# Altium schematic symbol library 28112023.SCHLIB: 18 symbols
Pins are listed as number, name and electrical type; pins without a type are passive.

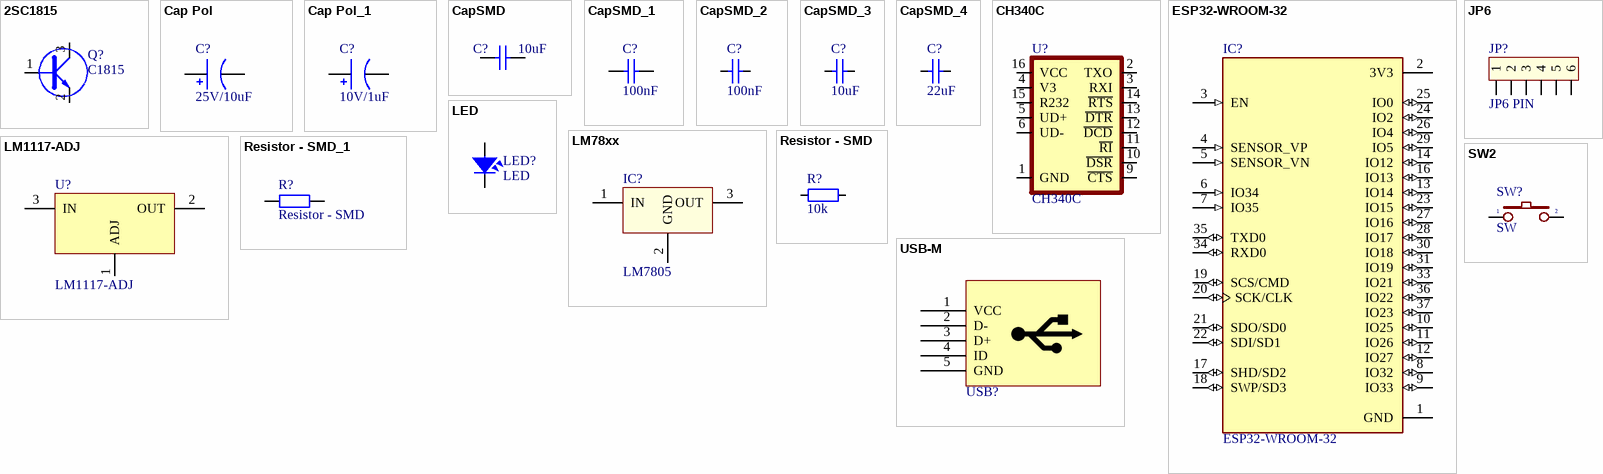
[diagram p0: symbols 2SC1815 to USB-M]

## 2SC1815
designator Q?, comment C1815
NPN 600mW, ECB; Value: C1815
footprint TO92-123 (TO-92)
footprint TO92-123 - 1 (TO-92)
footprint TO92-123 - 2 (TO-92)
footprint TO92-123 - 3 (TO-92)
footprint Model Name (Footprint not found)
footprint SOT23D (SOT 23C - 1-3-2 - BCE)
footprint C1815
pins: 1 B, 2 E, 3 C

## Cap Pol
designator C?, comment 25V/10uF
Polarized Capacitor (Axial); Published: 8-Jun-2000; LatestRevisionDate: 17-Jul-2002; LatestRevisionNote: Re-released for DXP Platform.; PackageReference: POLAR0.8; Publisher: Altium Limited
footprint C3MM
footprint C5mm
footprint C8mm
footprint C10mm
footprint C12mm
footprint CAP_H12_D08
footprint CAP_H20_D10
footprint CAP_H17_D10
pins: 1, 2
1 alternate drawing of the same symbol

## Cap Pol_1
designator C?, comment 10V/1uF
Polarized Capacitor (Axial); Published: 8-Jun-2000; LatestRevisionDate: 17-Jul-2002; LatestRevisionNote: Re-released for DXP Platform.; PackageReference: POLAR0.8; Publisher: Altium Limited
footprint C3MM
footprint C5mm
footprint C8mm
footprint C10mm
footprint C12mm
footprint CAP_H12_D08
footprint CAP_H20_D10
footprint CAP_H17_D10
pins: 1, 2
1 alternate drawing of the same symbol

## CapSMD
designator C?, comment 10uF
Capacitor; Value: 33p; Published: 8-Jun-2000; LatestRevisionDate: 17-Jul-2002; LatestRevisionNote: Re-released for DXP Platform.; PackageReference: RAD-0.3; Publisher: Altium Limited
simulation model CAP (Capacitor)
signal-integrity model Cap
footprint C0805 (Chip Resistor; Body 2.0 x 1.3 mm (LxW typ))
footprint CAP_0402
footprint CAP_0402
footprint CAP_0402
footprint CAP_0603
pins: 1, 2

## CapSMD_1
designator C?, comment 100nF
Capacitor; Value: 33p; Published: 8-Jun-2000; LatestRevisionDate: 17-Jul-2002; LatestRevisionNote: Re-released for DXP Platform.; PackageReference: RAD-0.3; Publisher: Altium Limited
simulation model CAP (Capacitor)
signal-integrity model Cap
footprint C0805 (Chip Resistor; Body 2.0 x 1.3 mm (LxW typ))
footprint CAP_0402
footprint CAP_0402
footprint CAP_0402
footprint CAP_0603
pins: 1, 2

## CapSMD_2
designator C?, comment 100nF
Capacitor; Value: 33p; Published: 8-Jun-2000; LatestRevisionDate: 17-Jul-2002; LatestRevisionNote: Re-released for DXP Platform.; PackageReference: RAD-0.3; Publisher: Altium Limited
footprint CAP_0402
footprint CAP_0603
footprint CAP_0805
footprint CAP_1206
footprint CAP_3216
footprint Cap0504 (nrf_Cap)
pins: 1, 2

## CapSMD_3
designator C?, comment 10uF
Capacitor; Value: 33p; Published: 8-Jun-2000; LatestRevisionDate: 17-Jul-2002; LatestRevisionNote: Re-released for DXP Platform.; PackageReference: RAD-0.3; Publisher: Altium Limited
footprint CAP_0402
footprint CAP_0603
footprint CAP_0805
footprint CAP_1206
footprint CAP_3216
footprint Cap0504 (nrf_Cap)
pins: 1, 2

## CapSMD_4
designator C?, comment 22uF
Capacitor; Value: 33p; Published: 8-Jun-2000; LatestRevisionDate: 17-Jul-2002; LatestRevisionNote: Re-released for DXP Platform.; PackageReference: RAD-0.3; Publisher: Altium Limited
footprint CAP_0402
footprint CAP_0603
footprint CAP_0805
footprint CAP_1206
footprint CAP_3216
footprint Cap0504 (nrf_Cap)
pins: 1, 2

## CH340C
designator U?
USB to serial chip CH340; MF: WCH; Package: Package; Check_prices: https://www.snapeda.com/parts/CH340C/WCH/view-part/5428851/?ref=eda; Value: *; Price: None; MP: CH340C; Availability: Unavailable; SnapEDA_Link: https://www.snapeda.com/parts/CH340C/WCH/view-part/5428851/?ref=snap
footprint SOP-16
pins: 1 GND (io), 2 TXO (io), 3 RXI (io), 4 V3 (io), 5 UD+ (io), 6 UD- (io), 9 ~{CTS} (io), 10 ~{DSR} (io), 11 ~{RI} (io), 12 ~{DCD} (io), 13 ~{DTR} (io), 14 ~{RTS} (io), 15 R232 (io), 16 VCC (io)

## ESP32-WROOM-32
designator IC?
Bluetooth, WiFi Transceiver Module 2.4GHz ~ 2.5GHz Surface Mount; MF: Espressif Systems; Package: Module Espressif Systems; Digi-Key_Part_Number: 1904-1010-1-ND; Digi-Key_Purchase_URL: https://www.digikey.com/product-detail/en/espressif-systems/ESP32-WROOM-32/1904-1010-1-ND/8544305?utm_source=snapeda&utm_medium=aggregator&utm_campaign=symbol; Value: *; MP: ESP32-WROOM-32; SnapEDA_Link: https://www.snapeda.com/parts/ESP32-WROOM-32/Espressif%20Systems/view-part/2753322/?ref=snap
footprint MODULE_ESP32-WROOM-32
pins: 1 GND (power), 2 3V3 (power), 3 EN (in), 4 SENSOR_VP (in), 5 SENSOR_VN (in), 6 IO34 (in), 7 IO35 (in), 8 IO32 (io), 9 IO33 (io), 10 IO25 (io), 11 IO26 (io), 12 IO27 (io), 13 IO14 (io), 14 IO12 (io), 15 GND (power), 16 IO13 (io), 17 SHD/SD2 (io), 18 SWP/SD3 (io), 19 SCS/CMD (io), 20 SCK/CLK (io), 21 SDO/SD0 (io), 22 SDI/SD1 (io), 23 IO15 (io), 24 IO2 (io), 25 IO0 (io), 26 IO4 (io), 27 IO16 (io), 28 IO17 (io), 29 IO5 (io), 30 IO18 (io), 31 IO19 (io), 33 IO21 (io), 34 RXD0 (io), 35 TXD0 (io), 36 IO22 (io), 37 IO23 (io), 38 GND (power), 39_1 GND (power), 39_2 GND (power), 39_3 GND (power), 39_4 GND (power), 39_5 GND (power), 39_6 GND (power), 39_7 GND (power), 39_8 GND (power), 39_9 GND (power), 39_10 GND (power), 39_11 GND (power), 39_12 GND (power), 39_13 GND (power), 39_14 GND (power), 39_15 GND (power), 39_16 GND (power), 39_17 GND (power), 39_18 GND (power), 39_19 GND (power), 39_20 GND (power), 39_21 GND (power)

## JP6
designator JP?, comment JP6 PIN
Value: JP7
footprint JP6
footprint JP6H
pins: 1, 2, 3, 4, 5, 6

## LED
designator LED?
LED Single colour Green and Red; Value: LED 3 ly Single Colour
footprint LED-3 (LED 2 PIN, 3ly Only colour)
footprint LED-5 GRe (LED 2 PIN, 5 ly , Only colour,pin to pin 100mil)
footprint LED-5TRED (LED 2 PIN, 5 ly , Only colour, pin to pin 110mil)
footprint LED-0805-Blue
footprint LED-0805-Green
footprint LED-0805-Orange
footprint LED-0805-Red
footprint LED-0805-Yellow
footprint LED-1206-Blue (Compoment SMD 120x60mil)
footprint LED-1206-Green
footprint LED-1206-Orange
footprint LED-1206-Red
footprint LED-1206-Yellow
footprint LED0805 (Chip Resistor; Body 2.0 x 1.3 mm (LxW typ))
pins: 1, 2

## LM78xx
designator IC?, comment LM7805
On ap +, from + 5 to + 24VDC; Value: LM7805
footprint QTO-220 (TO-220 - 1-2-3)
footprint QTO-220H3 (TO-220 1-2-3)
footprint QTO-220NH (TO-220 - 1-2-3)
pins: 1 IN, 2 GND, 3 OUT

## LM1117-ADJ
designator U?
800mA Low-Dropout Linear Regulator; Creator: Nguyen Ba Bien; Website: http://group3i.net
footprint LM1117-SOP
pins: 1 ADJ, 2 OUT, 3 IN

## Resistor - SMD
designator R?, comment 10k
Resistor; Manufacturer: Generic Components; Class: Passive; Published: 08/06/2000; Publisher: Altium Hobart Technology Centre
footprint RES-SMD-0101
footprint RES-SMD-0201
footprint RES-SMD-0603
footprint RES-SMD-0805
footprint RES-SMD-1206
footprint RES-SMD-1210 (Chip Capacitor, Body 3.2x2.5mm, IPC Medium Density)
footprint RES-SMD-1812 (Chip Capacitor, Body 3.2x2.5mm, IPC Medium Density)
footprint RES-SMD-2010 (Chip Capacitor, Body 3.2x2.5mm, IPC Medium Density)
footprint RES-SMD-2512 (Chip Capacitor, Body 3.2x2.5mm, IPC Medium Density)
footprint RES-SMD-0402
footprint RES-SMD-0402
footprint RES-SMD-0603
pins: 1, 2

## Resistor - SMD_1
designator R?, comment Resistor - SMD
Resistor SMD; Manufacturer: Generic Components; Class: Passive; Published: 08/06/2000; Publisher: Altium Hobart Technology Centre
footprint RES-SMD-0101
footprint RES-SMD-0201
footprint RES-SMD-0603
footprint RES-SMD-0805
footprint RES-SMD-1206
footprint RES-SMD-1210 (Chip Capacitor, Body 3.2x2.5mm, IPC Medium Density)
footprint RES-SMD-1812 (Chip Capacitor, Body 3.2x2.5mm, IPC Medium Density)
footprint RES-SMD-2010 (Chip Capacitor, Body 3.2x2.5mm, IPC Medium Density)
footprint RES-SMD-2512 (Chip Capacitor, Body 3.2x2.5mm, IPC Medium Density)
footprint RES-SMD-0402
pins: 1, 2

## SW2
designator SW?, comment SW
Switch button 2 pin; Value: SW chip 2 pin
footprint SW2 (SW button 2pin, 250x 250 mil)
footprint SW2-D1 (SW button 2pin, 300x 300 x 250 mil)
footprint SW2-D2 (SW button 2pin, 300x 300 x 250 mil)
footprint SW 3x2x4
footprint SW102_SIDE
pins: 1, 2

## USB-M
designator USB?, comment USB  (value not drawn)
footprint USB-B-Mini
footprint USB-M1
pins: 1 VCC, 2 D-, 3 D+, 4 ID, 5 GND